# Altium schematic symbol library BQ2057CSN.SchLib: 1 symbol
Pins are listed as number, name and electrical type; pins without a type are passive.

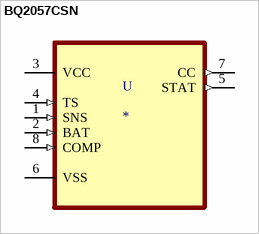
[diagram p0: symbol BQ2057CSN]

## BQ2057CSN
designator U
Charger IC Lithium Ion/Polymer 8-SOIC; MF: Texas Instruments; MP: BQ2057CSN; Price: None; Package: SOIC-8 Texas Instruments; Availability: Unavailable; SnapEDA_Link: https://www.snapeda.com/parts/BQ2057CSN/Texas%20Instruments/view-part/237203/?ref=snap; Value: *
footprint SOIC127P600X175-8N
footprint SOIC127P600X175-8N
pins: 1 SNS (in), 2 BAT (in), 3 VCC (power), 4 TS (in), 5 STAT (out), 6 VSS (power), 7 CC (out), 8 COMP (in)